# EAGLE library part I6A4W020A033V (library SAE_2019)
I6A4W020A033V TDK-Lamda - 250W, 9-53V Input Non-isolated DC-DC Converter
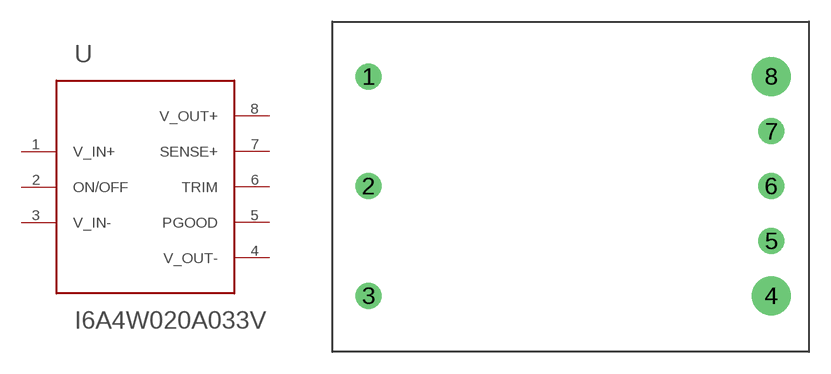
[diagram p6: symbol with the pads of I6A4W020A033V; footprint I6A4W020A033V]

Designator prefix -

## I6A4W020A033V  [I6A4W020A033V]
1  V_IN+
2  ON/OFF
3  V_IN-
4  V_OUT-
5  PGOOD
6  TRIM
7  SENSE+
8  V_OUT+

## Footprint I6A4W020A033V (pad centres in mm)
I6A4W020A033V
drill 1.2: 1 2.5,19.1; 2 2.5,11.5; 3 2.5,3.9; 5 30.4,7.7; 6 30.4,11.5; 7 30.4,15.3
drill 1.8: 4 30.4,3.9; 8 30.4,19.1